# Altium footprint library Test Points.PcbLib: 3 footprints
Each footprint in its own frame and in the unit in brackets; x right, y up, seen from the top. Pads: shape width x height; smd on the part's side, far side on the other; paste and mask are expansions set on the pad; w line width, h text height; cw(c..) or ccw(c..) is an arc to the next point about the centre after c.
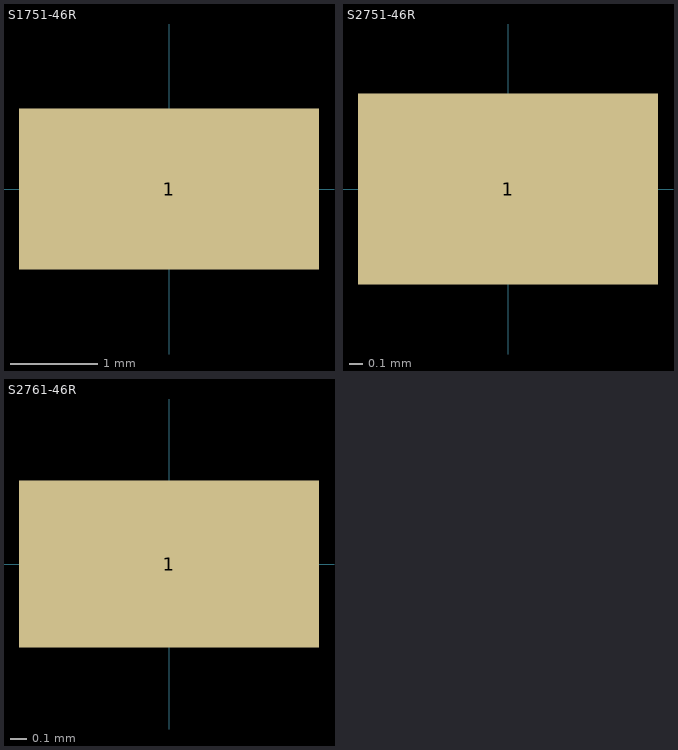
[diagram p0: the footprints below, top view; thin cyan lines are the x and y axes]

## S1751-46R [mm] "SMD Test Point"
pads (1):
  rect 3.45x1.85 smd: 1(0,0)
3D body "s1751-46r.stp": height 2.05, standoff 0, extent -1.62,-0.8 1.63,0.85

## S2751-46R [mm] "SMD Test Point"
pads (1):
  rect 2.2x1.4 smd: 1(0,0)
3D body "s2751-46r.stp": height 1.42, standoff 0, extent -1,-0.55 1,0.65

## S2761-46R [mm] "SMD test point"
pads (1):
  rect 1.8x1 smd: 1(0,0)
3D body "s2761-46r.stp": height 1.17, standoff -0.01, extent -0.85,-0.4 0.75,0.4